# Altium schematic symbol library LM317.SchLib: 1 symbol
Pins are listed as number, name and electrical type; pins without a type are passive.

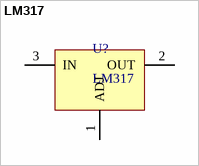
[diagram p0: symbol LM317]

## LM317
designator U?
Linear adjustable voltage/current regulator 1,5 A, 40 V; Наименование: LM317T; Потребление, Вт: 0; Назначение: Linear adjustable voltage/current regulator 1,5 A, 40 V; ComponentLink1Description: Datasheet; ComponentLink1URL: https://static.chipdip.ru/lib/611/DOC026611360.pdf
footprint D2Pak
pins: 1 ADJ (power), 2 OUT (power), 3 IN (power)